# Altium schematic symbol library floppy_m0dule.SchLib: 1 symbol
Pins are listed as number, name and electrical type; pins without a type are passive.

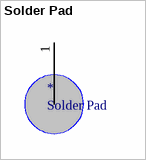
[diagram p0: symbol Solder Pad]

## Solder Pad
designator *
footprint SOLDER_PAD
pins: 1